# Altium schematic symbol library WE-RFI.SchLib: 80 symbols (part 2 of 2)
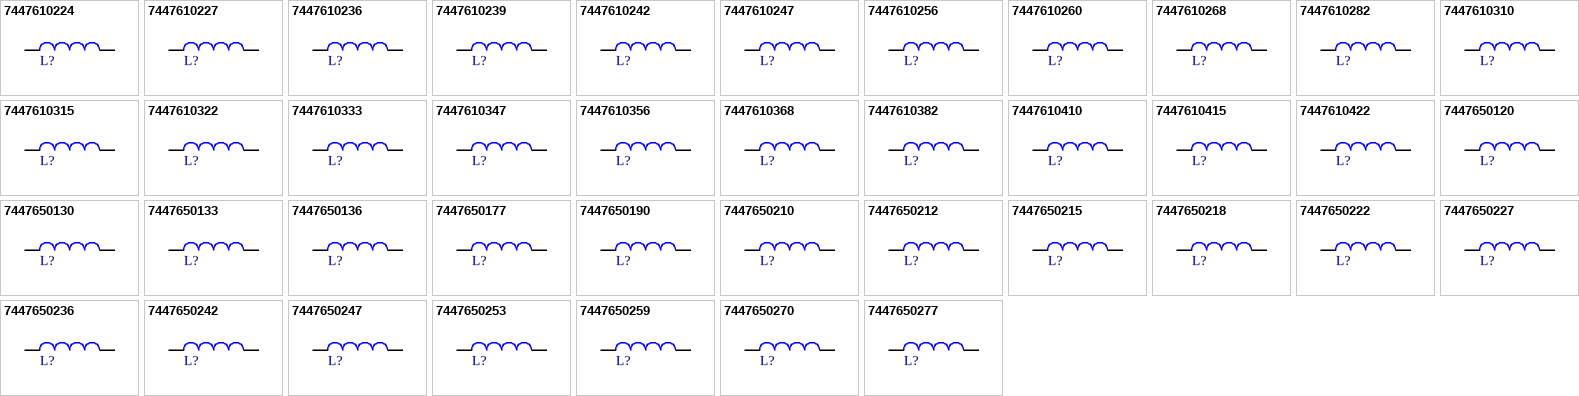
[diagram p2: symbols 7447610224 to 7447650277]

## 7447610315
designator L?, comment 1500nH  (value not drawn)
WE-RFI Ferrite SMT Inductor, size 0603, 1500nH, 200mA, 605MHz; Manufacturer Part Number: 7447610315; Manufacturer: Wurth Elektronik; Case/Size Code: 0603; DC Resistance Max: 1070mOhm; Impedance @100MHz: 830Ohm; Impedance Max: 6910Ohm; Inductance Tolerance: +/-5%; Q Factor: 13; Category: RF Inductors; Match Code: WE-RFI; ComponentLink1Description: Website Link; ComponentLink1URL: https://www.we-online.com/redexpert/article/7447610315?ad; ComponentLink2Description: Datasheet Link; ComponentLink2URL: https://www.we-online.com/redexpert/spec/7447610315?ad; Mount: Surface Mount; Operating Temperature Max: 85°C; Operating Temperature Min: -40°C; Packaging: Tape and Reel; Length: 1.65mm; Width: 1.1mm; Height: 0.9mm; Impedance Max Test Condition: 605MHz; Inductance: 1500nH; Rated Current: 200mA; Self Resonant Frequency: 605MHz
footprint WE-RFI_0603
simulation model 0603_7447610315_1.5u
pins: 1, 2

## 7447610322
designator L?, comment 2200nH  (value not drawn)
WE-RFI Ferrite SMT Inductor, size 0603, 2200nH, 350mA, 110MHz; Manufacturer Part Number: 7447610322; Manufacturer: Wurth Elektronik; Case/Size Code: 0603; DC Resistance Max: 400mOhm; Impedance @100MHz: 130Ohm; Impedance Max: 6380Ohm; Inductance Tolerance: +/-5%; Q Factor: 13; Category: RF Inductors; Match Code: WE-RFI; ComponentLink1Description: Website Link; ComponentLink1URL: https://www.we-online.com/redexpert/article/7447610322?ad; ComponentLink2Description: Datasheet Link; ComponentLink2URL: https://www.we-online.com/redexpert/spec/7447610322?ad; Mount: Surface Mount; Operating Temperature Max: 85°C; Operating Temperature Min: -40°C; Packaging: Tape and Reel; Length: 1.65mm; Width: 1.1mm; Height: 0.9mm; Impedance Max Test Condition: 110MHz; Inductance: 2200nH; Rated Current: 350mA; Self Resonant Frequency: 110MHz
footprint WE-RFI_0603
simulation model 0603_7447610322_2.2u
pins: 1, 2

## 7447610333
designator L?, comment 3300nH  (value not drawn)
WE-RFI Ferrite SMT Inductor, size 0603, 3300nH, 220mA, 110MHz; Manufacturer Part Number: 7447610333; Manufacturer: Wurth Elektronik; Case/Size Code: 0603; DC Resistance Max: 950mOhm; Impedance @100MHz: 190Ohm; Impedance Max: 10250Ohm; Inductance Tolerance: +/-5%; Q Factor: 14; Category: RF Inductors; Match Code: WE-RFI; ComponentLink1Description: Website Link; ComponentLink1URL: https://www.we-online.com/redexpert/article/7447610333?ad; ComponentLink2Description: Datasheet Link; ComponentLink2URL: https://www.we-online.com/redexpert/spec/7447610333?ad; Mount: Surface Mount; Operating Temperature Max: 85°C; Operating Temperature Min: -40°C; Packaging: Tape and Reel; Length: 1.65mm; Width: 1.1mm; Height: 0.9mm; Impedance Max Test Condition: 110MHz; Inductance: 3300nH; Rated Current: 220mA; Self Resonant Frequency: 110MHz
footprint WE-RFI_0603
simulation model 0603_7447610333_3.3u
pins: 1, 2

## 7447610347
designator L?, comment 4700nH  (value not drawn)
WE-RFI Ferrite SMT Inductor, size 0603, 4700nH, 200mA, 67MHz; Manufacturer Part Number: 7447610347; Manufacturer: Wurth Elektronik; Case/Size Code: 0603; DC Resistance Max: 1125mOhm; Impedance @100MHz: 280Ohm; Impedance Max: 11100Ohm; Inductance Tolerance: +/-5%; Q Factor: 14; Category: RF Inductors; Match Code: WE-RFI; ComponentLink1Description: Website Link; ComponentLink1URL: https://www.we-online.com/redexpert/article/7447610347?ad; ComponentLink2Description: Datasheet Link; ComponentLink2URL: https://www.we-online.com/redexpert/spec/7447610347?ad; Mount: Surface Mount; Operating Temperature Max: 85°C; Operating Temperature Min: -40°C; Packaging: Tape and Reel; Length: 1.65mm; Width: 1.1mm; Height: 0.9mm; Impedance Max Test Condition: 67MHz; Inductance: 4700nH; Rated Current: 200mA; Self Resonant Frequency: 67MHz
footprint WE-RFI_0603
simulation model 0603_7447610347_4.7u
pins: 1, 2

## 7447610356
designator L?, comment 5600nH  (value not drawn)
WE-RFI Ferrite SMT Inductor, size 0603, 5600nH, 195mA, 62MHz; Manufacturer Part Number: 7447610356; Manufacturer: Wurth Elektronik; Case/Size Code: 0603; DC Resistance Max: 1055mOhm; Impedance @100MHz: 325Ohm; Impedance Max: 12080Ohm; Inductance Tolerance: +/-5%; Q Factor: 14; Category: RF Inductors; Match Code: WE-RFI; ComponentLink1Description: Website Link; ComponentLink1URL: https://www.we-online.com/redexpert/article/7447610356?ad; ComponentLink2Description: Datasheet Link; ComponentLink2URL: https://www.we-online.com/redexpert/spec/7447610356?ad; Mount: Surface Mount; Operating Temperature Max: 85°C; Operating Temperature Min: -40°C; Packaging: Tape and Reel; Length: 1.65mm; Width: 1.1mm; Height: 0.9mm; Impedance Max Test Condition: 62MHz; Inductance: 5600nH; Rated Current: 195mA; Self Resonant Frequency: 62MHz
footprint WE-RFI_0603
simulation model 0603_7447610356_5.6u
pins: 1, 2

## 7447610368
designator L?, comment 6800nH  (value not drawn)
WE-RFI Ferrite SMT Inductor, size 0603, 6800nH, 170mA, 52MHz; Manufacturer Part Number: 7447610368; Manufacturer: Wurth Elektronik; Case/Size Code: 0603; DC Resistance Max: 1380mOhm; Impedance @100MHz: 400Ohm; Impedance Max: 13300Ohm; Inductance Tolerance: +/-5%; Q Factor: 14; Category: RF Inductors; Match Code: WE-RFI; ComponentLink1Description: Website Link; ComponentLink1URL: https://www.we-online.com/redexpert/article/7447610368?ad; ComponentLink2Description: Datasheet Link; ComponentLink2URL: https://www.we-online.com/redexpert/spec/7447610368?ad; Mount: Surface Mount; Operating Temperature Max: 85°C; Operating Temperature Min: -40°C; Packaging: Tape and Reel; Length: 1.65mm; Width: 1.1mm; Height: 0.9mm; Impedance Max Test Condition: 52MHz; Inductance: 6800nH; Rated Current: 170mA; Self Resonant Frequency: 52MHz
footprint WE-RFI_0603
simulation model 0603_7447610368_6.8u
pins: 1, 2

## 7447610382
designator L?, comment 8200nH  (value not drawn)
WE-RFI Ferrite SMT Inductor, size 0603, 8200nH, 150mA, 46MHz; Manufacturer Part Number: 7447610382; Manufacturer: Wurth Elektronik; Case/Size Code: 0603; DC Resistance Max: 1550mOhm; Impedance @100MHz: 490Ohm; Impedance Max: 14390Ohm; Inductance Tolerance: +/-5%; Q Factor: 14; Category: RF Inductors; Match Code: WE-RFI; ComponentLink1Description: Website Link; ComponentLink1URL: https://www.we-online.com/redexpert/article/7447610382?ad; ComponentLink2Description: Datasheet Link; ComponentLink2URL: https://www.we-online.com/redexpert/spec/7447610382?ad; Mount: Surface Mount; Operating Temperature Max: 85°C; Operating Temperature Min: -40°C; Packaging: Tape and Reel; Length: 1.65mm; Width: 1.1mm; Height: 0.9mm; Impedance Max Test Condition: 46MHz; Inductance: 8200nH; Rated Current: 150mA; Self Resonant Frequency: 46MHz
footprint WE-RFI_0603
simulation model 0603_7447610382_8.2u
pins: 1, 2

## 7447610410
designator L?, comment 10000nH  (value not drawn)
WE-RFI Ferrite SMT Inductor, size 0603, 10000nH, 160mA, 40MHz; Manufacturer Part Number: 7447610410; Manufacturer: Wurth Elektronik; Case/Size Code: 0603; DC Resistance Max: 1700mOhm; Impedance @100MHz: 580Ohm; Impedance Max: 15450Ohm; Inductance Tolerance: +/-5%; Q Factor: 14; Category: RF Inductors; Match Code: WE-RFI; ComponentLink1Description: Website Link; ComponentLink1URL: https://www.we-online.com/redexpert/article/7447610410?ad; ComponentLink2Description: Datasheet Link; ComponentLink2URL: https://www.we-online.com/redexpert/spec/7447610410?ad; Mount: Surface Mount; Operating Temperature Max: 85°C; Operating Temperature Min: -40°C; Packaging: Tape and Reel; Length: 1.65mm; Width: 1.1mm; Height: 0.9mm; Impedance Max Test Condition: 40MHz; Inductance: 10000nH; Rated Current: 160mA; Self Resonant Frequency: 40MHz
footprint WE-RFI_0603
simulation model 0603_7447610410_10u
pins: 1, 2

## 7447610415
designator L?, comment 15000nH  (value not drawn)
WE-RFI Ferrite SMT Inductor, size 0603, 15000nH, 90mA, 30MHz; Manufacturer Part Number: 7447610415; Manufacturer: Wurth Elektronik; Case/Size Code: 0603; DC Resistance Max: 3900mOhm; Impedance @100MHz: 950Ohm; Impedance Max: 22410Ohm; Inductance Tolerance: +/-5%; Q Factor: 13; Category: RF Inductors; Match Code: WE-RFI; ComponentLink1Description: Website Link; ComponentLink1URL: https://www.we-online.com/redexpert/article/7447610415?ad; ComponentLink2Description: Datasheet Link; ComponentLink2URL: https://www.we-online.com/redexpert/spec/7447610415?ad; Mount: Surface Mount; Operating Temperature Max: 85°C; Operating Temperature Min: -40°C; Packaging: Tape and Reel; Length: 1.65mm; Width: 1.1mm; Height: 0.9mm; Impedance Max Test Condition: 30MHz; Inductance: 15000nH; Rated Current: 90mA; Self Resonant Frequency: 30MHz
footprint WE-RFI_0603
simulation model 0603_7447610415_15u
pins: 1, 2

## 7447610422
designator L?, comment 22000nH  (value not drawn)
WE-RFI Ferrite SMT Inductor, size 0603, 22000nH, 85mA, 24MHz; Manufacturer Part Number: 7447610422; Manufacturer: Wurth Elektronik; Case/Size Code: 0603; DC Resistance Max: 4900mOhm; Impedance @100MHz: 1500Ohm; Impedance Max: 29020Ohm; Inductance Tolerance: +/-5%; Q Factor: 12; Category: RF Inductors; Match Code: WE-RFI; ComponentLink1Description: Website Link; ComponentLink1URL: https://www.we-online.com/redexpert/article/7447610422?ad; ComponentLink2Description: Datasheet Link; ComponentLink2URL: https://www.we-online.com/redexpert/spec/7447610422?ad; Mount: Surface Mount; Operating Temperature Max: 85°C; Operating Temperature Min: -40°C; Packaging: Tape and Reel; Length: 1.65mm; Width: 1.1mm; Height: 0.9mm; Impedance Max Test Condition: 24MHz; Inductance: 22000nH; Rated Current: 85mA; Self Resonant Frequency: 24MHz
footprint WE-RFI_0603
simulation model 0603_7447610422_22u
pins: 1, 2

## 7447650120
designator L?, comment 20nH  (value not drawn)
WE-RFI Ferrite SMT Inductor, size 0402, 20nH, 1080mA, 7720MHz; Manufacturer Part Number: 7447650120; Manufacturer: Wurth Elektronik; Case/Size Code: 0402; DC Resistance Max: 25mOhm; Impedance @100MHz: 11Ohm; Impedance Max: 187Ohm; Inductance Tolerance: +/-5%; Q Factor: 11; Category: RF Inductors; Match Code: WE-RFI; ComponentLink1Description: Website Link; ComponentLink1URL: https://www.we-online.com/redexpert/article/7447650120?ad; ComponentLink2Description: Datasheet Link; ComponentLink2URL: https://www.we-online.com/redexpert/spec/7447650120?ad; Mount: Surface Mount; Operating Temperature Max: 85°C; Operating Temperature Min: -40°C; Packaging: Tape and Reel; Length: 1mm; Width: 0.55mm; Height: 0.55mm; Impedance Max Test Condition: 7720MHz; Inductance: 20nH; Rated Current: 1080mA; Self Resonant Frequency: 7720MHz
footprint WE-RFI_0402
simulation model 0402_7447650120_0.02u
pins: 1, 2

## 7447650130
designator L?, comment 30nH  (value not drawn)
WE-RFI Ferrite SMT Inductor, size 0402, 30nH, 900mA, 3800MHz; Manufacturer Part Number: 7447650130; Manufacturer: Wurth Elektronik; Case/Size Code: 0402; DC Resistance Max: 35mOhm; Impedance @100MHz: 16Ohm; Impedance Max: 261Ohm; Inductance Tolerance: +/-5%; Q Factor: 11; Category: RF Inductors; Match Code: WE-RFI; ComponentLink1Description: Website Link; ComponentLink1URL: https://www.we-online.com/redexpert/article/7447650130?ad; ComponentLink2Description: Datasheet Link; ComponentLink2URL: https://www.we-online.com/redexpert/spec/7447650130?ad; Mount: Surface Mount; Operating Temperature Max: 85°C; Operating Temperature Min: -40°C; Packaging: Tape and Reel; Length: 1mm; Width: 0.55mm; Height: 0.55mm; Impedance Max Test Condition: 3800MHz; Inductance: 30nH; Rated Current: 900mA; Self Resonant Frequency: 3800MHz
footprint WE-RFI_0402
simulation model 0402_7447650130_0.03u
pins: 1, 2

## 7447650133
designator L?, comment 33nH  (value not drawn)
WE-RFI Ferrite SMT Inductor, size 0402, 33nH, 900mA, 3875MHz; Manufacturer Part Number: 7447650133; Manufacturer: Wurth Elektronik; Case/Size Code: 0402; DC Resistance Max: 35mOhm; Impedance @100MHz: 18Ohm; Impedance Max: 327Ohm; Inductance Tolerance: +/-5%; Q Factor: 11; Category: RF Inductors; Match Code: WE-RFI; ComponentLink1Description: Website Link; ComponentLink1URL: https://www.we-online.com/redexpert/article/7447650133?ad; ComponentLink2Description: Datasheet Link; ComponentLink2URL: https://www.we-online.com/redexpert/spec/7447650133?ad; Mount: Surface Mount; Operating Temperature Max: 85°C; Operating Temperature Min: -40°C; Packaging: Tape and Reel; Length: 1mm; Width: 0.55mm; Height: 0.55mm; Impedance Max Test Condition: 3875MHz; Inductance: 33nH; Rated Current: 900mA; Self Resonant Frequency: 3875MHz
footprint WE-RFI_0402
simulation model 0402_7447650133_0.033u
pins: 1, 2

## 7447650136
designator L?, comment 36nH  (value not drawn)
WE-RFI Ferrite SMT Inductor, size 0402, 36nH, 850mA, 3875MHz; Manufacturer Part Number: 7447650136; Manufacturer: Wurth Elektronik; Case/Size Code: 0402; DC Resistance Max: 40mOhm; Impedance @100MHz: 20Ohm; Impedance Max: 380Ohm; Inductance Tolerance: +/-5%; Q Factor: 11; Category: RF Inductors; Match Code: WE-RFI; ComponentLink1Description: Website Link; ComponentLink1URL: https://www.we-online.com/redexpert/article/7447650136?ad; ComponentLink2Description: Datasheet Link; ComponentLink2URL: https://www.we-online.com/redexpert/spec/7447650136?ad; Mount: Surface Mount; Operating Temperature Max: 85°C; Operating Temperature Min: -40°C; Packaging: Tape and Reel; Length: 1mm; Width: 0.55mm; Height: 0.55mm; Impedance Max Test Condition: 3875MHz; Inductance: 36nH; Rated Current: 850mA; Self Resonant Frequency: 3875MHz
footprint WE-RFI_0402
simulation model 0402_7447650136_0.036u
pins: 1, 2

## 7447650177
designator L?, comment 77nH  (value not drawn)
WE-RFI Ferrite SMT Inductor, size 0402, 77nH, 640mA, 2980MHz; Manufacturer Part Number: 7447650177; Manufacturer: Wurth Elektronik; Case/Size Code: 0402; DC Resistance Max: 90mOhm; Impedance @100MHz: 42Ohm; Impedance Max: 802Ohm; Inductance Tolerance: +/-5%; Q Factor: 11; Category: RF Inductors; Match Code: WE-RFI; ComponentLink1Description: Website Link; ComponentLink1URL: https://www.we-online.com/redexpert/article/7447650177?ad; ComponentLink2Description: Datasheet Link; ComponentLink2URL: https://www.we-online.com/redexpert/spec/7447650177?ad; Mount: Surface Mount; Operating Temperature Max: 85°C; Operating Temperature Min: -40°C; Packaging: Tape and Reel; Length: 1mm; Width: 0.55mm; Height: 0.55mm; Impedance Max Test Condition: 2980MHz; Inductance: 77nH; Rated Current: 640mA; Self Resonant Frequency: 2980MHz
footprint WE-RFI_0402
simulation model 0402_7447650177_0.077u
pins: 1, 2

## 7447650190
designator L?, comment 90nH  (value not drawn)
WE-RFI Ferrite SMT Inductor, size 0402, 90nH, 640mA, 3140MHz; Manufacturer Part Number: 7447650190; Manufacturer: Wurth Elektronik; Case/Size Code: 0402; DC Resistance Max: 80mOhm; Impedance @100MHz: 50Ohm; Impedance Max: 954Ohm; Inductance Tolerance: +/-5%; Q Factor: 11; Category: RF Inductors; Match Code: WE-RFI; ComponentLink1Description: Website Link; ComponentLink1URL: https://www.we-online.com/redexpert/article/7447650190?ad; ComponentLink2Description: Datasheet Link; ComponentLink2URL: https://www.we-online.com/redexpert/spec/7447650190?ad; Mount: Surface Mount; Operating Temperature Max: 85°C; Operating Temperature Min: -40°C; Packaging: Tape and Reel; Length: 1mm; Width: 0.55mm; Height: 0.55mm; Impedance Max Test Condition: 3140MHz; Inductance: 90nH; Rated Current: 640mA; Self Resonant Frequency: 3140MHz
footprint WE-RFI_0402
simulation model 0402_7447650190_0.09u
pins: 1, 2

## 7447650210
designator L?, comment 100nH  (value not drawn)
WE-RFI Ferrite SMT Inductor, size 0402, 100nH, 550mA, 2955MHz; Manufacturer Part Number: 7447650210; Manufacturer: Wurth Elektronik; Case/Size Code: 0402; DC Resistance Max: 130mOhm; Impedance @100MHz: 55Ohm; Impedance Max: 1184Ohm; Inductance Tolerance: +/-5%; Q Factor: 12; Category: RF Inductors; Match Code: WE-RFI; ComponentLink1Description: Website Link; ComponentLink1URL: https://www.we-online.com/redexpert/article/7447650210?ad; ComponentLink2Description: Datasheet Link; ComponentLink2URL: https://www.we-online.com/redexpert/spec/7447650210?ad; Mount: Surface Mount; Operating Temperature Max: 85°C; Operating Temperature Min: -40°C; Packaging: Tape and Reel; Length: 1mm; Width: 0.55mm; Height: 0.55mm; Impedance Max Test Condition: 2955MHz; Inductance: 100nH; Rated Current: 550mA; Self Resonant Frequency: 2955MHz
footprint WE-RFI_0402
simulation model 0402_7447650210_0.1u
pins: 1, 2

## 7447650212
designator L?, comment 120nH  (value not drawn)
WE-RFI Ferrite SMT Inductor, size 0402, 120nH, 575mA, 2955MHz; Manufacturer Part Number: 7447650212; Manufacturer: Wurth Elektronik; Case/Size Code: 0402; DC Resistance Max: 110mOhm; Impedance @100MHz: 65Ohm; Impedance Max: 1160Ohm; Inductance Tolerance: +/-5%; Q Factor: 12; Category: RF Inductors; Match Code: WE-RFI; ComponentLink1Description: Website Link; ComponentLink1URL: https://www.we-online.com/redexpert/article/7447650212?ad; ComponentLink2Description: Datasheet Link; ComponentLink2URL: https://www.we-online.com/redexpert/spec/7447650212?ad; Mount: Surface Mount; Operating Temperature Max: 85°C; Operating Temperature Min: -40°C; Packaging: Tape and Reel; Length: 1mm; Width: 0.55mm; Height: 0.55mm; Impedance Max Test Condition: 2955MHz; Inductance: 120nH; Rated Current: 575mA; Self Resonant Frequency: 2955MHz
footprint WE-RFI_0402
simulation model 0402_7447650212_0.12u
pins: 1, 2

## 7447650215
designator L?, comment 150nH  (value not drawn)
WE-RFI Ferrite SMT Inductor, size 0402, 150nH, 545mA, 2590MHz; Manufacturer Part Number: 7447650215; Manufacturer: Wurth Elektronik; Case/Size Code: 0402; DC Resistance Max: 130mOhm; Impedance @100MHz: 84Ohm; Impedance Max: 2063Ohm; Inductance Tolerance: +/-5%; Q Factor: 12; Category: RF Inductors; Match Code: WE-RFI; ComponentLink1Description: Website Link; ComponentLink1URL: https://www.we-online.com/redexpert/article/7447650215?ad; ComponentLink2Description: Datasheet Link; ComponentLink2URL: https://www.we-online.com/redexpert/spec/7447650215?ad; Mount: Surface Mount; Operating Temperature Max: 85°C; Operating Temperature Min: -40°C; Packaging: Tape and Reel; Length: 1mm; Width: 0.55mm; Height: 0.55mm; Impedance Max Test Condition: 2590MHz; Inductance: 150nH; Rated Current: 545mA; Self Resonant Frequency: 2590MHz
footprint WE-RFI_0402
simulation model 0402_7447650215_0.15u
pins: 1, 2

## 7447650218
designator L?, comment 180nH  (value not drawn)
WE-RFI Ferrite SMT Inductor, size 0402, 180nH, 470mA, 2955MHz; Manufacturer Part Number: 7447650218; Manufacturer: Wurth Elektronik; Case/Size Code: 0402; DC Resistance Max: 160mOhm; Impedance @100MHz: 100Ohm; Impedance Max: 1836Ohm; Inductance Tolerance: +/-5%; Q Factor: 12; Category: RF Inductors; Match Code: WE-RFI; ComponentLink1Description: Website Link; ComponentLink1URL: https://www.we-online.com/redexpert/article/7447650218?ad; ComponentLink2Description: Datasheet Link; ComponentLink2URL: https://www.we-online.com/redexpert/spec/7447650218?ad; Mount: Surface Mount; Operating Temperature Max: 85°C; Operating Temperature Min: -40°C; Packaging: Tape and Reel; Length: 1mm; Width: 0.55mm; Height: 0.55mm; Impedance Max Test Condition: 2955MHz; Inductance: 180nH; Rated Current: 470mA; Self Resonant Frequency: 2955MHz
footprint WE-RFI_0402
simulation model 0402_7447650218_0.18u
pins: 1, 2

## 7447650222
designator L?, comment 220nH  (value not drawn)
WE-RFI Ferrite SMT Inductor, size 0402, 220nH, 390mA, 2170MHz; Manufacturer Part Number: 7447650222; Manufacturer: Wurth Elektronik; Case/Size Code: 0402; DC Resistance Max: 220mOhm; Impedance @100MHz: 120Ohm; Impedance Max: 2318Ohm; Inductance Tolerance: +/-5%; Q Factor: 12; Category: RF Inductors; Match Code: WE-RFI; ComponentLink1Description: Website Link; ComponentLink1URL: https://www.we-online.com/redexpert/article/7447650222?ad; ComponentLink2Description: Datasheet Link; ComponentLink2URL: https://www.we-online.com/redexpert/spec/7447650222?ad; Mount: Surface Mount; Operating Temperature Max: 85°C; Operating Temperature Min: -40°C; Packaging: Tape and Reel; Length: 1mm; Width: 0.55mm; Height: 0.55mm; Impedance Max Test Condition: 2170MHz; Inductance: 220nH; Rated Current: 390mA; Self Resonant Frequency: 2170MHz
footprint WE-RFI_0402
simulation model 0402_7447650222_0.22u
pins: 1, 2

## 7447650227
designator L?, comment 270nH  (value not drawn)
WE-RFI Ferrite SMT Inductor, size 0402, 270nH, 370mA, 2015MHz; Manufacturer Part Number: 7447650227; Manufacturer: Wurth Elektronik; Case/Size Code: 0402; DC Resistance Max: 260mOhm; Impedance @100MHz: 150Ohm; Impedance Max: 2883Ohm; Inductance Tolerance: +/-5%; Q Factor: 12; Category: RF Inductors; Match Code: WE-RFI; ComponentLink1Description: Website Link; ComponentLink1URL: https://www.we-online.com/redexpert/article/7447650227?ad; ComponentLink2Description: Datasheet Link; ComponentLink2URL: https://www.we-online.com/redexpert/spec/7447650227?ad; Mount: Surface Mount; Operating Temperature Max: 85°C; Operating Temperature Min: -40°C; Packaging: Tape and Reel; Length: 1mm; Width: 0.55mm; Height: 0.55mm; Impedance Max Test Condition: 2015MHz; Inductance: 270nH; Rated Current: 370mA; Self Resonant Frequency: 2015MHz
footprint WE-RFI_0402
simulation model 0402_7447650227_0.27u
pins: 1, 2

## 7447650236
designator L?, comment 360nH  (value not drawn)
WE-RFI Ferrite SMT Inductor, size 0402, 360nH, 320mA, 1565MHz; Manufacturer Part Number: 7447650236; Manufacturer: Wurth Elektronik; Case/Size Code: 0402; DC Resistance Max: 375mOhm; Impedance @100MHz: 200Ohm; Impedance Max: 4418Ohm; Inductance Tolerance: +/-5%; Q Factor: 12; Category: RF Inductors; Match Code: WE-RFI; ComponentLink1Description: Website Link; ComponentLink1URL: https://www.we-online.com/redexpert/article/7447650236?ad; ComponentLink2Description: Datasheet Link; ComponentLink2URL: https://www.we-online.com/redexpert/spec/7447650236?ad; Mount: Surface Mount; Operating Temperature Max: 85°C; Operating Temperature Min: -40°C; Packaging: Tape and Reel; Length: 1mm; Width: 0.55mm; Height: 0.55mm; Impedance Max Test Condition: 1565MHz; Inductance: 360nH; Rated Current: 320mA; Self Resonant Frequency: 1565MHz
footprint WE-RFI_0402
simulation model 0402_7447650236_0.36u
pins: 1, 2

## 7447650242
designator L?, comment 420nH  (value not drawn)
WE-RFI Ferrite SMT Inductor, size 0402, 420nH, 270mA, 1810MHz; Manufacturer Part Number: 7447650242; Manufacturer: Wurth Elektronik; Case/Size Code: 0402; DC Resistance Max: 460mOhm; Impedance @100MHz: 235Ohm; Impedance Max: 4888Ohm; Inductance Tolerance: +/-5%; Q Factor: 12; Category: RF Inductors; Match Code: WE-RFI; ComponentLink1Description: Website Link; ComponentLink1URL: https://www.we-online.com/redexpert/article/7447650242?ad; ComponentLink2Description: Datasheet Link; ComponentLink2URL: https://www.we-online.com/redexpert/spec/7447650242?ad; Mount: Surface Mount; Operating Temperature Max: 85°C; Operating Temperature Min: -40°C; Packaging: Tape and Reel; Length: 1mm; Width: 0.55mm; Height: 0.55mm; Impedance Max Test Condition: 1810MHz; Inductance: 420nH; Rated Current: 270mA; Self Resonant Frequency: 1810MHz
footprint WE-RFI_0402
simulation model 0402_7447650242_0.42u
pins: 1, 2

## 7447650247
designator L?, comment 470nH  (value not drawn)
WE-RFI Ferrite SMT Inductor, size 0402, 470nH, 260mA, 1600MHz; Manufacturer Part Number: 7447650247; Manufacturer: Wurth Elektronik; Case/Size Code: 0402; DC Resistance Max: 510mOhm; Impedance @100MHz: 260Ohm; Impedance Max: 4790Ohm; Inductance Tolerance: +/-5%; Q Factor: 12; Category: RF Inductors; Match Code: WE-RFI; ComponentLink1Description: Website Link; ComponentLink1URL: https://www.we-online.com/redexpert/article/7447650247?ad; ComponentLink2Description: Datasheet Link; ComponentLink2URL: https://www.we-online.com/redexpert/spec/7447650247?ad; Mount: Surface Mount; Operating Temperature Max: 85°C; Operating Temperature Min: -40°C; Packaging: Tape and Reel; Length: 1mm; Width: 0.55mm; Height: 0.55mm; Impedance Max Test Condition: 1600MHz; Inductance: 470nH; Rated Current: 260mA; Self Resonant Frequency: 1600MHz
footprint WE-RFI_0402
simulation model 0402_7447650247_0.47u
pins: 1, 2

## 7447650253
designator L?, comment 530nH  (value not drawn)
WE-RFI Ferrite SMT Inductor, size 0402, 530nH, 230mA, 1600MHz; Manufacturer Part Number: 7447650253; Manufacturer: Wurth Elektronik; Case/Size Code: 0402; DC Resistance Max: 615mOhm; Impedance @100MHz: 300Ohm; Impedance Max: 6050Ohm; Inductance Tolerance: +/-5%; Q Factor: 12; Category: RF Inductors; Match Code: WE-RFI; ComponentLink1Description: Website Link; ComponentLink1URL: https://www.we-online.com/redexpert/article/7447650253?ad; ComponentLink2Description: Datasheet Link; ComponentLink2URL: https://www.we-online.com/redexpert/spec/7447650253?ad; Mount: Surface Mount; Operating Temperature Max: 85°C; Operating Temperature Min: -40°C; Packaging: Tape and Reel; Length: 1mm; Width: 0.55mm; Height: 0.55mm; Impedance Max Test Condition: 1600MHz; Inductance: 530nH; Rated Current: 230mA; Self Resonant Frequency: 1600MHz
footprint WE-RFI_0402
simulation model 0402_7447650253_0.53u
pins: 1, 2

## 7447650259
designator L?, comment 590nH  (value not drawn)
WE-RFI Ferrite SMT Inductor, size 0402, 590nH, 220mA, 1370MHz; Manufacturer Part Number: 7447650259; Manufacturer: Wurth Elektronik; Case/Size Code: 0402; DC Resistance Max: 670mOhm; Impedance @100MHz: 330Ohm; Impedance Max: 6260Ohm; Inductance Tolerance: +/-5%; Q Factor: 12; Category: RF Inductors; Match Code: WE-RFI; ComponentLink1Description: Website Link; ComponentLink1URL: https://www.we-online.com/redexpert/article/7447650259?ad; ComponentLink2Description: Datasheet Link; ComponentLink2URL: https://www.we-online.com/redexpert/spec/7447650259?ad; Mount: Surface Mount; Operating Temperature Max: 85°C; Operating Temperature Min: -40°C; Packaging: Tape and Reel; Length: 1mm; Width: 0.55mm; Height: 0.55mm; Impedance Max Test Condition: 1370MHz; Inductance: 590nH; Rated Current: 220mA; Self Resonant Frequency: 1370MHz
footprint WE-RFI_0402
simulation model 0402_7447650259_0.59u
pins: 1, 2

## 7447650270
designator L?, comment 700nH  (value not drawn)
WE-RFI Ferrite SMT Inductor, size 0402, 700nH, 160mA, 1565MHz; Manufacturer Part Number: 7447650270; Manufacturer: Wurth Elektronik; Case/Size Code: 0402; DC Resistance Max: 1125mOhm; Impedance @100MHz: 400Ohm; Impedance Max: 7130Ohm; Inductance Tolerance: +/-5%; Q Factor: 11; Category: RF Inductors; Match Code: WE-RFI; ComponentLink1Description: Website Link; ComponentLink1URL: https://www.we-online.com/redexpert/article/7447650270?ad; ComponentLink2Description: Datasheet Link; ComponentLink2URL: https://www.we-online.com/redexpert/spec/7447650270?ad; Mount: Surface Mount; Operating Temperature Max: 85°C; Operating Temperature Min: -40°C; Packaging: Tape and Reel; Length: 1mm; Width: 0.55mm; Height: 0.55mm; Impedance Max Test Condition: 1565MHz; Inductance: 700nH; Rated Current: 160mA; Self Resonant Frequency: 1565MHz
footprint WE-RFI_0402
simulation model 0402_7447650270_0.7u
pins: 1, 2

## 7447650277
designator L?, comment 770nH  (value not drawn)
WE-RFI Ferrite SMT Inductor, size 0402, 770nH, 155mA, 1240MHz; Manufacturer Part Number: 7447650277; Manufacturer: Wurth Elektronik; Case/Size Code: 0402; DC Resistance Max: 1250mOhm; Impedance @100MHz: 430Ohm; Impedance Max: 8900Ohm; Inductance Tolerance: +/-5%; Q Factor: 12; Category: RF Inductors; Match Code: WE-RFI; ComponentLink1Description: Website Link; ComponentLink1URL: https://www.we-online.com/redexpert/article/7447650277?ad; ComponentLink2Description: Datasheet Link; ComponentLink2URL: https://www.we-online.com/redexpert/spec/7447650277?ad; Mount: Surface Mount; Operating Temperature Max: 85°C; Operating Temperature Min: -40°C; Packaging: Tape and Reel; Length: 1mm; Width: 0.55mm; Height: 0.55mm; Impedance Max Test Condition: 1240MHz; Inductance: 770nH; Rated Current: 155mA; Self Resonant Frequency: 1240MHz
footprint WE-RFI_0402
simulation model 0402_7447650277_0.77u
pins: 1, 2